# Altium footprint library PcbLib_Dc connector.PcbLib: 1 footprints
Each footprint in its own frame and in the unit in brackets; x right, y up, seen from the top. Pads: shape width x height; smd on the part's side, far side on the other; paste and mask are expansions set on the pad; w line width, h text height; cw(c..) or ccw(c..) is an arc to the next point about the centre after c.
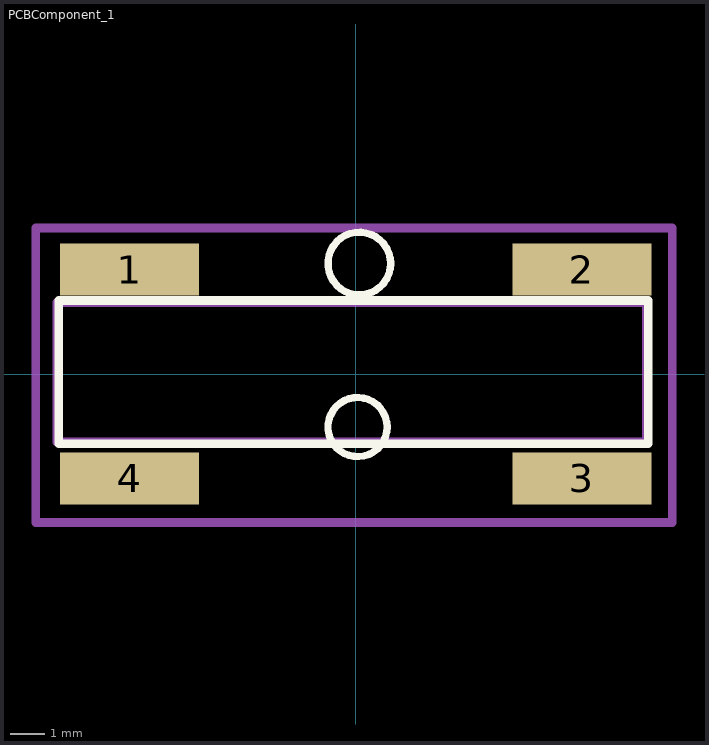
[diagram p0: the footprint, top view; thin cyan lines are the x and y axes]

## PCBComponent_1 [mm]
pads (4):
  rect 4x1.5 smd: 1(-6.5,3) 2(6.5,3) 3(6.5,-3) 4(-6.5,-3)
Top Overlay:
  circle w0.21: c0.051,-1.524 r0.85
  circle w0.21: c0.102,3.175 r0.9
  lines w0.254: -8.534,-2.007 8.407,-2.007 8.407,2.108 -8.534,2.108 -8.534,-2.007
Mechanical15:
  lines w0.254: -9.195,-4.267 9.093,-4.267 9.093,4.191 -9.195,4.191 -9.195,-4.267
Mechanical29:
  lines w0.254: -8.585,-1.956 8.357,-1.956 8.357,2.057 -8.585,2.057 -8.585,-1.956
3D body "CUI_DEVICES_PJ-002AH-SMT-TR.step": height 11.01, standoff -0.79, extent -6.046,-6.934 6.554,7.966